# Altium schematic symbol library DRAM.SchLib: 1 symbol
Pins are listed as number, name and electrical type; pins without a type are passive.

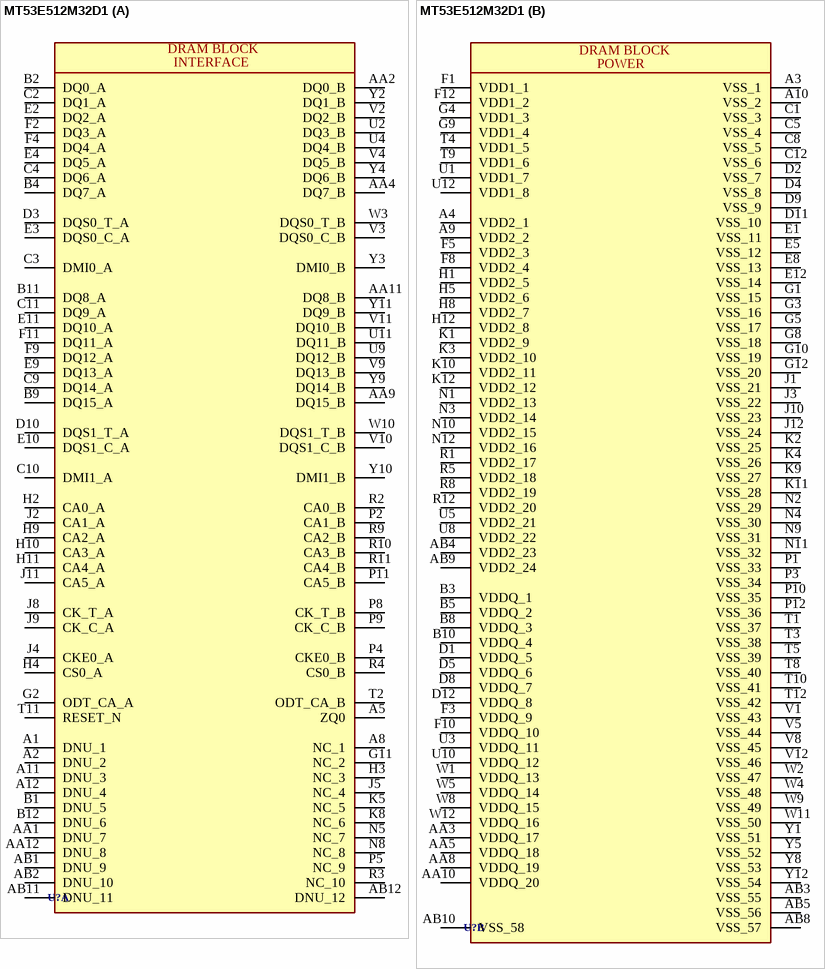
[diagram p0: symbol MT53E512M32D1]

## MT53E512M32D1
designator U?
SDRAM - Mobile LPDDR4 Memory IC 16Gbit; Manufacturer 1: Micron Technology Inc.; Manufacturer Part Number 1: *; Supplier Part Number 1: *; Supplier 1: *; Package: *
footprint BGA200C65P12X22_1000X1450X105
part A pins: A1 DNU_1, A2 DNU_2, A5 ZQ0, A8 NC_1, A11 DNU_3, A12 DNU_4, AA1 DNU_7, AA2 DQ0_B, AA4 DQ7_B, AA9 DQ15_B, AA11 DQ8_B, AA12 DNU_8, AB1 DNU_9, AB2 DNU_10, AB11 DNU_11, AB12 DNU_12, B1 DNU_5, B2 DQ0_A, B4 DQ7_A, B9 DQ15_A, B11 DQ8_A, B12 DNU_6, C2 DQ1_A, C3 DMI0_A, C4 DQ6_A, C9 DQ14_A, C10 DMI1_A, C11 DQ9_A, D3 DQS0_T_A, D10 DQS1_T_A, E2 DQ2_A, E3 DQS0_C_A, E4 DQ5_A, E9 DQ13_A, E10 DQS1_C_A, E11 DQ10_A, F2 DQ3_A, F4 DQ4_A, F9 DQ12_A, F11 DQ11_A, G2 ODT_CA_A, G11 NC_2, H2 CA0_A, H3 NC_3, H4 CS0_A, H9 CA2_A, H10 CA3_A, H11 CA4_A, J2 CA1_A, J4 CKE0_A, J5 NC_4, J8 CK_T_A, J9 CK_C_A, J11 CA5_A, K5 NC_5, K8 NC_6, N5 NC_7, N8 NC_8, P2 CA1_B, P4 CKE0_B, P5 NC_9, P8 CK_T_B, P9 CK_C_B, P11 CA5_B, R2 CA0_B, R3 NC_10, R4 CS0_B, R9 CA2_B, R10 CA3_B, R11 CA4_B, T2 ODT_CA_B, T11 RESET_N, U2 DQ3_B, U4 DQ4_B, U9 DQ12_B, U11 DQ11_B, V2 DQ2_B, V3 DQS0_C_B, V4 DQ5_B, V9 DQ13_B, V10 DQS1_C_B, V11 DQ10_B, W3 DQS0_T_B, W10 DQS1_T_B, Y2 DQ1_B, Y3 DMI0_B, Y4 DQ6_B, Y9 DQ14_B, Y10 DMI1_B, Y11 DQ9_B
part B pins: A3 VSS_1, A4 VDD2_1, A9 VDD2_2, A10 VSS_2, AA3 VDDQ_17, AA5 VDDQ_18, AA8 VDDQ_19, AA10 VDDQ_20, AB3 VSS_55, AB4 VDD2_23, AB5 VSS_56, AB8 VSS_57, AB9 VDD2_24, AB10 VSS_58, B3 VDDQ_1, B5 VDDQ_2, B8 VDDQ_3, B10 VDDQ_4, C1 VSS_3, C5 VSS_4, C8 VSS_5, C12 VSS_6, D1 VDDQ_5, D2 VSS_7, D4 VSS_8, D5 VDDQ_6, D8 VDDQ_7, D9 VSS_9, D11 VSS_10, D12 VDDQ_8, E1 VSS_11, E5 VSS_12, E8 VSS_13, E12 VSS_14, F1 VDD1_1, F3 VDDQ_9, F5 VDD2_3, F8 VDD2_4, F10 VDDQ_10, F12 VDD1_2, G1 VSS_15, G3 VSS_16, G4 VDD1_3, G5 VSS_17, G8 VSS_18, G9 VDD1_4, G10 VSS_19, G12 VSS_20, H1 VDD2_5, H5 VDD2_6, H8 VDD2_7, H12 VDD2_8, J1 VSS_21, J3 VSS_22, J10 VSS_23, J12 VSS_24, K1 VDD2_9, K2 VSS_25, K3 VDD2_10, K4 VSS_26, K9 VSS_27, K10 VDD2_11, K11 VSS_28, K12 VDD2_12, N1 VDD2_13, N2 VSS_29, N3 VDD2_14, N4 VSS_30, N9 VSS_31, N10 VDD2_15, N11 VSS_32, N12 VDD2_16, P1 VSS_33, P3 VSS_34, P10 VSS_35, P12 VSS_36, R1 VDD2_17, R5 VDD2_18, R8 VDD2_19, R12 VDD2_20, T1 VSS_37, T3 VSS_38, T4 VDD1_5, T5 VSS_39, T8 VSS_40, T9 VDD1_6, T10 VSS_41, T12 VSS_42, U1 VDD1_7, U3 VDDQ_11, U5 VDD2_21, U8 VDD2_22, U10 VDDQ_12, U12 VDD1_8, V1 VSS_43, V5 VSS_44, V8 VSS_45, V12 VSS_46, W1 VDDQ_13, W2 VSS_47, W4 VSS_48, W5 VDDQ_14, W8 VDDQ_15, W9 VSS_49, W11 VSS_50, W12 VDDQ_16, Y1 VSS_51, Y5 VSS_52, Y8 VSS_53, Y12 VSS_54
part A text: DRAM BLOCK; INTERFACE
part B text: DRAM BLOCK; POWER